# EAGLE library part TCD2720BFG (library ICs)
Highly sensitive and low dark current 7500 pixels × 4 line (RGBM) CCD color image sensor.
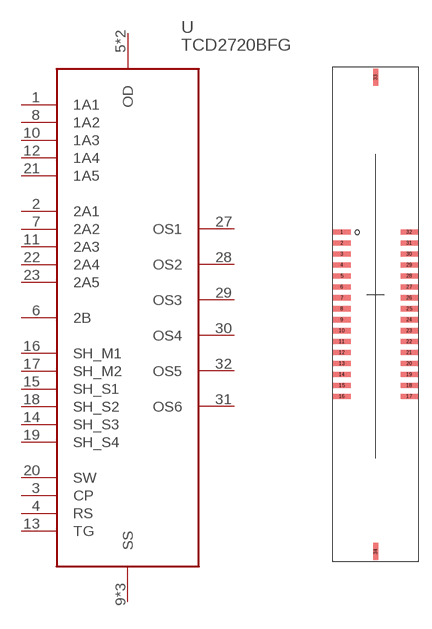
[diagram p336: symbol with the pads of WQFN32-C-R300-1.27; footprint WQFN32-C-R300-1.27]

Designator prefix U

## TCD2720BFG (HEIGHT: 3.5; PRICE_PER: 45; VALUE: TCD2720BFG)  [WQFN32-C-R300-1.27]
1  1A1
2  2A1
3  CP
4  RS
5  OD
6  2B
7  2A2
8  1A2
9  SS
10  1A3
11  2A3
12  1A4
13  TG
14  SH_S3
15  SH_S1
16  SH_M1
17  SH_M2
18  SH_S2
19  SH_S4
20  SW
21  1A5
22  2A4
23  2A5
24  SS
25  SS
26  OD
27  OS1
28  OS2
29  OS3
30  OS4
31  OS6
32  OS5

## Footprint WQFN32-C-R300-1.27 (pad centres in mm)
smd 2 x 0.6: 1 -3.9,9.525; 2 -3.9,8.255; 3 -3.9,6.985; 4 -3.9,5.715; 5 -3.9,4.445; 6 -3.9,3.175; 7 -3.9,1.905; 8 -3.9,0.635; 9 -3.9,-0.635; 10 -3.9,-1.905; 11 -3.9,-3.175; 12 -3.9,-4.445; 13 -3.9,-5.715; 14 -3.9,-6.985; 15 -3.9,-8.255; 16 -3.9,-9.525; 17 3.9,-9.525; 18 3.9,-8.255; 19 3.9,-6.985; 20 3.9,-5.715; 21 3.9,-4.445; 22 3.9,-3.175; 23 3.9,-1.905; 24 3.9,-0.635; 25 3.9,0.635; 26 3.9,1.905; 27 3.9,3.175; 28 3.9,4.445; 29 3.9,5.715; 30 3.9,6.985; 31 3.9,8.255; 32 3.9,9.525
smd 0.6 x 2: 33 0,27.5; 34 0,-27.5